# Altium footprint library IC packages.PcbLib: 68 footprints (part 2 of 5)
Each footprint in its own frame and in the unit in brackets; x right, y up, seen from the top. Pads: shape width x height; smd on the part's side, far side on the other; paste and mask are expansions set on the pad; w line width, h text height; cw(c..) or ccw(c..) is an arc to the next point about the centre after c.
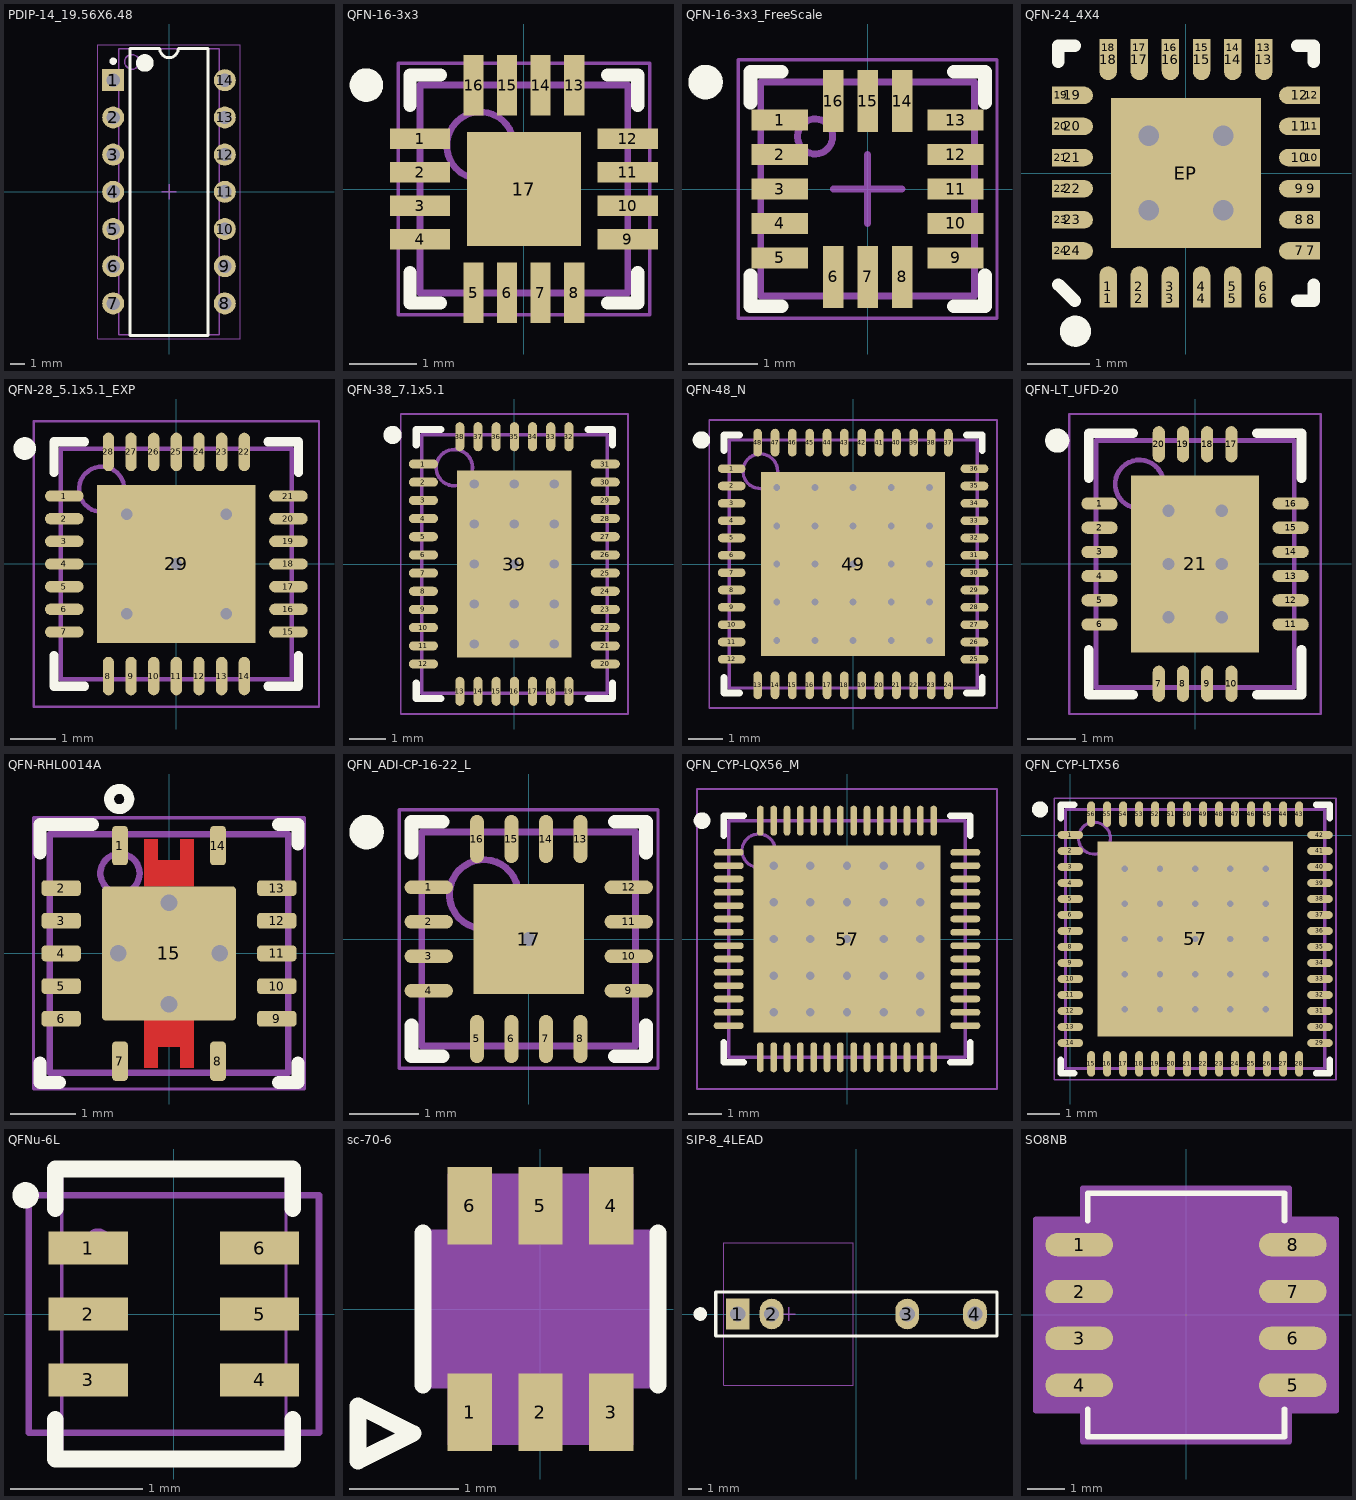
[diagram p1: the footprints below, top view; thin cyan lines are the x and y axes]

## PDIP-14_19.56X6.48 [mm] "14 Pin PDIP Package"
height 3.3
pads (14):
  rect 1.5x1.5 hole 0.9: 1(-3.81,7.62)
  round 1.5 hole 0.9: 2(-3.81,5.08) 3(-3.81,2.54) 4(-3.81,0) 5(-3.81,-2.54) 6(-3.81,-5.08) 7(-3.81,-7.62) 8(3.81,-7.62) 9(3.81,-5.08) 10(3.81,-2.54) 11(3.81,0) 12(3.81,2.54) 13(3.81,5.08) 14(3.81,7.62)
Top Overlay:
  circle w0.6: c-1.65,8.8 r0.3
  circle w0.25: c-3.81,8.92 r0.125
  lines w0.2: -2.65,-9.8 2.65,-9.8 2.65,9.8 0.635,9.8 cw(c0,9.8) -0.635,9.8 -2.65,9.8 -2.65,-9.8
Mechanical 1:
  circle w0.1: c-2.525,8.875 r0.5
  lines w0.1: -3.425,-9.775 3.425,-9.775 3.425,9.775 -3.425,9.775 -3.425,-9.775
  text ".Designator" at -2.057,-0.465 h1.52
Mechanical 15:
  lines w0.05: -4.85,-10.05 4.85,-10.05 4.85,10.05 -4.85,10.05 -4.85,-10.05
  lines w0.1: -0.5,0 0.5,0 ; 0,-0.5 0,0.5
3D body: height 0, standoff -1.6, extent 3.675,7.26 3.945,7.98
3D body: height 2.36, standoff 2.09, extent 3.425,7.12 3.945,8.12
3D body: height 2.09, standoff 0, extent 3.675,7.12 3.945,8.12
3D body: height 0, standoff -1.6, extent 3.675,4.72 3.945,5.44
3D body: height 2.36, standoff 2.09, extent 3.425,4.58 3.945,5.58
3D body: height 2.09, standoff 0, extent 3.675,4.58 3.945,5.58
3D body: height 0, standoff -1.6, extent 3.675,2.18 3.945,2.9
3D body: height 2.36, standoff 2.09, extent 3.425,2.04 3.945,3.04
3D body: height 2.09, standoff 0, extent 3.675,2.04 3.945,3.04
3D body: height 0, standoff -1.6, extent 3.675,-0.36 3.945,0.36
3D body: height 2.36, standoff 2.09, extent 3.425,-0.5 3.945,0.5
3D body: height 2.09, standoff 0, extent 3.675,-0.5 3.945,0.5
3D body: height 0, standoff -1.6, extent 3.675,-2.9 3.945,-2.18
3D body: height 2.36, standoff 2.09, extent 3.425,-3.04 3.945,-2.04
3D body: height 2.09, standoff 0, extent 3.675,-3.04 3.945,-2.04
3D body: height 0, standoff -1.6, extent 3.675,-5.44 3.945,-4.72
3D body: height 2.36, standoff 2.09, extent 3.425,-5.58 3.945,-4.58
3D body: height 2.09, standoff 0, extent 3.675,-5.58 3.945,-4.58
3D body: height 0, standoff -1.6, extent 3.675,-7.98 3.945,-7.26
3D body: height 2.36, standoff 2.09, extent 3.425,-8.12 3.945,-7.12
3D body: height 2.09, standoff 0, extent 3.675,-8.12 3.945,-7.12
3D body: height 0, standoff -1.6, extent -3.945,-7.98 -3.675,-7.26
3D body: height 2.36, standoff 2.09, extent -3.945,-8.12 -3.425,-7.12
3D body: height 2.09, standoff 0, extent -3.945,-8.12 -3.675,-7.12
3D body: height 0, standoff -1.6, extent -3.945,-5.44 -3.675,-4.72
3D body: height 2.36, standoff 2.09, extent -3.945,-5.58 -3.425,-4.58
3D body: height 2.09, standoff 0, extent -3.945,-5.58 -3.675,-4.58
3D body: height 0, standoff -1.6, extent -3.945,-2.9 -3.675,-2.18
3D body: height 2.36, standoff 2.09, extent -3.945,-3.04 -3.425,-2.04
3D body: height 2.09, standoff 0, extent -3.945,-3.04 -3.675,-2.04
3D body: height 0, standoff -1.6, extent -3.945,-0.36 -3.675,0.36
3D body: height 2.36, standoff 2.09, extent -3.945,-0.5 -3.425,0.5
3D body: height 2.09, standoff 0, extent -3.945,-0.5 -3.675,0.5
3D body: height 0, standoff -1.6, extent -3.945,2.18 -3.675,2.9
3D body: height 2.36, standoff 2.09, extent -3.945,2.04 -3.425,3.04
3D body: height 2.09, standoff 0, extent -3.945,2.04 -3.675,3.04
3D body: height 0, standoff -1.6, extent -3.945,4.72 -3.675,5.44
3D body: height 2.36, standoff 2.09, extent -3.945,4.58 -3.425,5.58
3D body: height 2.09, standoff 0, extent -3.945,4.58 -3.675,5.58
3D body: height 0, standoff -1.6, extent -3.945,7.26 -3.675,7.98
3D body: height 2.36, standoff 2.09, extent -3.945,7.12 -3.425,8.12
3D body: height 2.09, standoff 0, extent -3.945,7.12 -3.675,8.12
3D body: height 0.51, standoff 0, extent -3.425,-9.775 3.425,9.775

## QFN-16-3x3 [mm] "QFN, 16-Leads, Body 3x3mm, Pitch 0.5mm, Thermal Pad 1.7x1.7mm"
height 0.8
pads (17):
  rect 0.9x0.3 smd mask+0.08: 1(-1.55,0.75) 2(-1.55,0.25) 3(-1.55,-0.25) 4(-1.55,-0.75) 9(1.55,-0.75) 10(1.55,-0.25) 11(1.55,0.25) 12(1.55,0.75)
  rect 0.3x0.9 smd mask+0.08: 5(-0.75,-1.55) 6(-0.25,-1.55) 7(0.25,-1.55) 8(0.75,-1.55) 13(0.75,1.55) 14(0.25,1.55) 15(-0.25,1.55) 16(-0.75,1.55)
  rect 1.7x1.7 smd: 17(0,0)
Top Overlay:
  circle w0.25: c-2.35,1.55 r0.125
  lines w0.2: -1.7,-1.25 -1.7,-1.7 -1.25,-1.7 ; -1.7,1.25 -1.7,1.7 -1.25,1.7 ; 1.25,-1.7 1.7,-1.7 1.7,-1.25 ; 1.25,1.7 1.7,1.7 1.7,1.25
Mechanical 1:
  text ".Designator" at -1.9,2.025 h1.52
Mechanical 13:
  circle w0.1: c-0.65,0.65 r0.5
  lines w0.1: -1.55,-1.55 -1.55,1.55 1.55,1.55 1.55,-1.55 -1.55,-1.55
Mechanical 15:
  lines w0.05: -1.875,-1.875 -1.875,1.875 1.875,1.875 1.875,-1.875 -1.875,-1.875
  lines w0.1: -0.5,0 0.5,0 ; 0,-0.5 0,0.5
3D body: height 0.8, standoff 0, extent -1.55,-1.55 1.55,1.55

## QFN-16-3x3_FreeScale [mm] "QFN, 16-Leads, Body 3x3mm, Pitch 0.5mm, MMA8451 IC"
height 0.8
pads (16):
  rect 0.813x0.3 smd mask+0.08: 1(-1.275,1) 2(-1.275,0.5) 3(-1.275,0) 4(-1.275,-0.5) 5(-1.275,-1) 9(1.275,-1) 10(1.275,-0.5) 11(1.275,0) 12(1.275,0.5) 13(1.275,1)
  rect 0.3x0.9 smd mask+0.08: 6(-0.5,-1.275) 7(0,-1.275) 8(0.5,-1.275) 14(0.5,1.275) 15(0,1.275) 16(-0.5,1.275)
Top Overlay:
  circle w0.25: c-2.35,1.55 r0.125
  lines w0.2: -1.7,-1.25 -1.7,-1.7 -1.25,-1.7 ; -1.7,1.25 -1.7,1.7 -1.25,1.7 ; 1.25,-1.7 1.7,-1.7 1.7,-1.25 ; 1.25,1.7 1.7,1.7 1.7,1.25
Mechanical 1:
  circle w0.1: c-0.762,0.762 r0.254
  lines w0.1: -1.55,-1.55 1.55,-1.55 1.55,1.55 -1.55,1.55 -1.55,-1.55
  text ".Designator" at -1.3,2.1 h1
Mechanical 15:
  lines w0.05: -1.875,-1.875 1.875,-1.875 1.875,1.875 -1.875,1.875 -1.875,-1.875
  lines w0.1: -0.5,0 0.5,0 ; 0,-0.5 0,0.5
3D body: height 0.8, standoff 0, extent -1.55,-1.55 1.55,1.55

## QFN-24_4X4 [mm] "Quad Flat No Lead, Plastic; 24 Terminals; Body 4 x 4 mm; Pitch 0.5 mm"
height 0.8
pads (49):
  rect 0.28x0.28 smd: 1(-1.25,-2.015) 2(-0.75,-2.015) 3(-0.25,-2.015) 4(0.25,-2.015) 5(0.75,-2.015) 6(1.25,-2.015) 7(2.015,-1.25) 8(2.015,-0.75) 9(2.015,-0.25) 10(2.015,0.25) 11(2.015,0.75) 12(2.015,1.25) 13(1.25,2.015) 14(0.75,2.015) 15(0.25,2.015) 16(-0.25,2.015) 17(-0.75,2.015) 18(-1.25,2.015) 19(-2.015,1.25) 20(-2.015,0.75) 21(-2.015,0.25) 22(-2.015,-0.25) 23(-2.015,-0.75) 24(-2.015,-1.25)
  oval 0.28x0.66 smd: 1(-1.25,-1.825) 2(-0.75,-1.825) 3(-0.25,-1.825) 4(0.25,-1.825) 5(0.75,-1.825) 6(1.25,-1.825) 13(1.25,1.825) 14(0.75,1.825) 15(0.25,1.825) 16(-0.25,1.825) 17(-0.75,1.825) 18(-1.25,1.825)
  oval 0.66x0.28 smd: 7(1.825,-1.25) 8(1.825,-0.75) 9(1.825,-0.25) 10(1.825,0.25) 11(1.825,0.75) 12(1.825,1.25) 19(-1.825,1.25) 20(-1.825,0.75) 21(-1.825,0.25) 22(-1.825,-0.25) 23(-1.825,-0.75) 24(-1.825,-1.25)
  rect 2.413x2.413 smd paste+0 mask+0.051: EP(0,0)
via -0.6,-0.6 diameter 0.66 hole 0.33
via 0.6,-0.6 diameter 0.66 hole 0.33
via 0.6,0.6 diameter 0.66 hole 0.33
via -0.6,0.6 diameter 0.66 hole 0.33
Top Overlay:
  circle w0.25: c-1.778,-2.54 r0.125
  lines w0.2: -2.05,-1.79 -1.79,-2.05 ; -2.05,1.79 -2.05,2.05 -1.79,2.05 ; 1.79,-2.05 2.05,-2.05 2.05,-1.79 ; 1.79,2.05 2.05,2.05 2.05,1.79
3D body "QFN-24 4x4.step": height 1, standoff 0, extent -2,-2 2,2

## QFN-28_5.1x5.1_EXP [mm] "QFN, 28-Leads, Body 5.1x5.1mm, Pitch 0.6mm, Thermal Pad 3.6X3.6mm, IPC Medium Density"
height 0.8
pads (29):
  oval 0.85x0.25 smd: 1(-2.475,1.5) 2(-2.475,1) 3(-2.475,0.5) 4(-2.475,0) 5(-2.475,-0.5) 6(-2.475,-1) 7(-2.475,-1.5) 15(2.475,-1.5) 16(2.475,-1) 17(2.475,-0.5) 18(2.475,0) 19(2.475,0.5) 20(2.475,1) 21(2.475,1.5)
  oval 0.25x0.85 smd: 8(-1.5,-2.475) 9(-1,-2.475) 10(-0.5,-2.475) 11(0,-2.475) 12(0.5,-2.475) 13(1,-2.475) 14(1.5,-2.475) 22(1.5,2.475) 23(1,2.475) 24(0.5,2.475) 25(0,2.475) 26(-0.5,2.475) 27(-1,2.475) 28(-1.5,2.475)
  rect 3.5x3.5 smd: 29(0,0)
via 1.1,-1.1 diameter 0.5 hole 0.254
via -1.1,-1.1 diameter 0.5 hole 0.254
via 0,0 diameter 0.5 hole 0.254
via 1.1,1.1 diameter 0.5 hole 0.254
via -1.1,1.1 diameter 0.5 hole 0.254
Top Overlay:
  circle w0.25: c-3.35,2.55 r0.125
  lines w0.2: -2.7,-2.025 -2.7,-2.7 -2.025,-2.7 ; -2.7,2.025 -2.7,2.7 -2.025,2.7 ; 2.025,-2.7 2.7,-2.7 2.7,-2.025 ; 2.025,2.7 2.7,2.7 2.7,2.025
Mechanical 1:
  circle w0.1: c-1.65,1.65 r0.5
  lines w0.1: -2.55,-2.55 2.55,-2.55 2.55,2.55 -2.55,2.55 -2.55,-2.55
  text ".Designator" at -1,-0.794 h1.52
Mechanical 15:
  lines w0.05: -3.15,-3.15 3.15,-3.15 3.15,3.15 -3.15,3.15 -3.15,-3.15
  lines w0.1: -0.5,0 0.5,0 ; 0,-0.5 0,0.5
3D body: height 0.8, standoff 0, extent -2.55,-2.55 2.55,2.55

## QFN-38_7.1x5.1 [mm] "QFN, 38-Leads, Body 7.1x5.1mm, Pitch 0.5mm, Thermal Pad 3.15x5.15mm, IPC Medium Density"
height 0.8
pads (39):
  oval 0.8x0.25 smd: 1(-2.5,2.75) 2(-2.5,2.25) 3(-2.5,1.75) 4(-2.5,1.25) 5(-2.5,0.75) 6(-2.5,0.25) 7(-2.5,-0.25) 8(-2.5,-0.75) 9(-2.5,-1.25) 10(-2.5,-1.75) 11(-2.5,-2.25) 12(-2.5,-2.75) 20(2.5,-2.75) 21(2.5,-2.25) 22(2.5,-1.75) 23(2.5,-1.25) 24(2.5,-0.75) 25(2.5,-0.25) 26(2.5,0.25) 27(2.5,0.75) 28(2.5,1.25) 29(2.5,1.75) 30(2.5,2.25) 31(2.5,2.75)
  oval 0.25x0.8 smd: 13(-1.5,-3.5) 14(-1,-3.5) 15(-0.5,-3.5) 16(0,-3.5) 17(0.5,-3.5) 18(1,-3.5) 19(1.5,-3.5) 32(1.5,3.5) 33(1,3.5) 34(0.5,3.5) 35(0,3.5) 36(-0.5,3.5) 37(-1,3.5) 38(-1.5,3.5)
  rect 3.15x5.15 smd: 39(0,0)
via -1.1,2.2 diameter 0.5 hole 0.254
via 0,2.2 diameter 0.5 hole 0.254
via 1.1,2.2 diameter 0.5 hole 0.254
via -1.1,1.1 diameter 0.5 hole 0.254
via 0,1.1 diameter 0.5 hole 0.254
via 1.1,1.1 diameter 0.5 hole 0.254
via -1.1,0 diameter 0.5 hole 0.254
via 0,0 diameter 0.5 hole 0.254
via 1.1,0 diameter 0.5 hole 0.254
via -1.1,-1.1 diameter 0.5 hole 0.254
via 0,-1.1 diameter 0.5 hole 0.254
via 1.1,-1.1 diameter 0.5 hole 0.254
via -1.1,-2.2 diameter 0.5 hole 0.254
via 0,-2.2 diameter 0.5 hole 0.254
via 1.1,-2.2 diameter 0.5 hole 0.254
Top Overlay:
  circle w0.25: c-3.35,3.55 r0.125
  lines w0.2: -2.7,-3.275 -2.7,-3.7 -2.025,-3.7 ; -2.7,3.275 -2.7,3.7 -2.025,3.7 ; 2.025,-3.7 2.7,-3.7 2.7,-3.275 ; 2.025,3.7 2.7,3.7 2.7,3.275
Mechanical 1:
  circle w0.1: c-1.65,2.65 r0.5
  lines w0.1: -2.55,-3.55 -2.55,3.55 2.55,3.55 2.55,-3.55 -2.55,-3.55
Mechanical 15:
  lines w0.05: -3.125,-4.125 -3.125,4.125 3.125,4.125 3.125,-4.125 -3.125,-4.125
  lines w0.1: -0.5,0 0.5,0 ; 0,-0.5 0,0.5
3D body: height 0.8, standoff 0, extent -2.55,-3.55 2.55,3.55

## QFN-48_N [mm] "QFN, 48-Leads, Body 7x7mm, Pitch 0.5mm, Thermal Pad 5.3x5.3mm, IPC Medium Density"
height 0.9
pads (49):
  oval 0.8x0.25 smd: 1(-3.5,2.75) 2(-3.5,2.25) 3(-3.5,1.75) 4(-3.5,1.25) 5(-3.5,0.75) 6(-3.5,0.25) 7(-3.5,-0.25) 8(-3.5,-0.75) 9(-3.5,-1.25) 10(-3.5,-1.75) 11(-3.5,-2.25) 12(-3.5,-2.75) 25(3.5,-2.75) 26(3.5,-2.25) 27(3.5,-1.75) 28(3.5,-1.25) 29(3.5,-0.75) 30(3.5,-0.25) 31(3.5,0.25) 32(3.5,0.75) 33(3.5,1.25) 34(3.5,1.75) 35(3.5,2.25) 36(3.5,2.75)
  oval 0.25x0.8 smd: 13(-2.75,-3.5) 14(-2.25,-3.5) 15(-1.75,-3.5) 16(-1.25,-3.5) 17(-0.75,-3.5) 18(-0.25,-3.5) 19(0.25,-3.5) 20(0.75,-3.5) 21(1.25,-3.5) 22(1.75,-3.5) 23(2.25,-3.5) 24(2.75,-3.5) 37(2.75,3.5) 38(2.25,3.5) 39(1.75,3.5) 40(1.25,3.5) 41(0.75,3.5) 42(0.25,3.5) 43(-0.25,3.5) 44(-0.75,3.5) 45(-1.25,3.5) 46(-1.75,3.5) 47(-2.25,3.5) 48(-2.75,3.5)
  rect 5.3x5.3 smd: 49(0,0)
via 2.2,-2.2 diameter 0.5 hole 0.2
via 1.1,-2.2 diameter 0.5 hole 0.2
via 0,-2.2 diameter 0.5 hole 0.2
via -1.1,-2.2 diameter 0.5 hole 0.2
via -2.2,-2.2 diameter 0.5 hole 0.2
via 2.2,-1.1 diameter 0.5 hole 0.2
via 1.1,-1.1 diameter 0.5 hole 0.2
via 0,-1.1 diameter 0.5 hole 0.2
via -1.1,-1.1 diameter 0.5 hole 0.2
via -2.2,-1.1 diameter 0.5 hole 0.2
via 2.2,0 diameter 0.5 hole 0.2
via 1.1,0 diameter 0.5 hole 0.2
via 0,0 diameter 0.5 hole 0.2
via -1.1,0 diameter 0.5 hole 0.2
via -2.2,0 diameter 0.5 hole 0.2
via 2.2,1.1 diameter 0.5 hole 0.2
via 1.1,1.1 diameter 0.5 hole 0.2
via 0,1.1 diameter 0.5 hole 0.2
via -1.1,1.1 diameter 0.5 hole 0.2
via -2.2,1.1 diameter 0.5 hole 0.2
via 2.2,2.2 diameter 0.5 hole 0.2
via 1.1,2.2 diameter 0.5 hole 0.2
via 0,2.2 diameter 0.5 hole 0.2
via -1.1,2.2 diameter 0.5 hole 0.2
via -2.2,2.2 diameter 0.5 hole 0.2
Top Overlay:
  circle w0.25: c-4.375,3.575 r0.125
  lines w0.2: -3.725,-3.275 -3.725,-3.725 -3.275,-3.725 ; -3.725,3.275 -3.725,3.725 -3.275,3.725 ; 3.275,-3.725 3.725,-3.725 3.725,-3.275 ; 3.275,3.725 3.725,3.725 3.725,3.275
Mechanical 13:
  circle w0.1: c-2.675,2.675 r0.5
  lines w0.1: -3.575,-3.575 3.575,-3.575 3.575,3.575 -3.575,3.575 -3.575,-3.575
Mechanical 15:
  lines w0.05: -4.15,-4.15 4.15,-4.15 4.15,4.15 -4.15,4.15 -4.15,-4.15
  lines w0.1: -0.5,0 0.5,0 ; 0,-0.5 0,0.5
3D body: height 0.9, standoff 0, extent -3.575,-3.575 3.575,3.575

## QFN-LT_UFD-20 [mm] "QFN, 20-Leads, Body 5.1x4.1mm, Pitch 0.5mm, Thermal Pad 2.65x3.65mm, IPC Medium Density"
height 0.8
pads (21):
  oval 0.75x0.25 smd: 1(-1.975,1.25) 2(-1.975,0.75) 3(-1.975,0.25) 4(-1.975,-0.25) 5(-1.975,-0.75) 6(-1.975,-1.25) 11(1.975,-1.25) 12(1.975,-0.75) 13(1.975,-0.25) 14(1.975,0.25) 15(1.975,0.75) 16(1.975,1.25)
  oval 0.25x0.75 smd: 7(-0.75,-2.475) 8(-0.25,-2.475) 9(0.25,-2.475) 10(0.75,-2.475) 17(0.75,2.475) 18(0.25,2.475) 19(-0.25,2.475) 20(-0.75,2.475)
  rect 2.65x3.65 smd: 21(0,0)
via -0.55,1.1 diameter 0.508 hole 0.254
via 0.55,1.1 diameter 0.508 hole 0.254
via -0.55,0 diameter 0.508 hole 0.254
via 0.55,0 diameter 0.508 hole 0.254
via -0.55,-1.1 diameter 0.508 hole 0.254
via 0.55,-1.1 diameter 0.508 hole 0.254
Top Overlay:
  circle w0.25: c-2.85,2.55 r0.125
  lines w0.2: -2.2,-1.775 -2.2,-2.7 -1.275,-2.7 ; -2.2,1.775 -2.2,2.7 -1.275,2.7 ; 1.275,-2.7 2.2,-2.7 2.2,-1.775 ; 1.275,2.7 2.2,2.7 2.2,1.775
Mechanical 1:
  circle w0.1: c-1.15,1.65 r0.5
  lines w0.1: -2.05,-2.55 -2.05,2.55 2.05,2.55 2.05,-2.55 -2.05,-2.55
Mechanical 15:
  lines w0.05: -2.6,-3.1 -2.6,3.1 2.6,3.1 2.6,-3.1 -2.6,-3.1
  lines w0.1: -0.5,0 0.5,0 ; 0,-0.5 0,0.5
3D body: height 0.8, standoff 0, extent -2.05,-2.55 2.05,2.55

## QFN-RHL0014A [mm] "QFN, 14-Leads, Body 3.5x3.5mm, Pitch 0.5mm, Thermal Pad 2.05x2.05mm, TI Recommended"
height 1
pads (15):
  rrect42% 0.24x0.6 smd: 1(-0.75,1.65) 7(-0.75,-1.65) 8(0.75,-1.65) 14(0.75,1.65)
  rrect42% 0.6x0.24 smd: 2(-1.65,1) 3(-1.65,0.5) 4(-1.65,0) 5(-1.65,-0.5) 6(-1.65,-1) 9(1.65,-1) 10(1.65,-0.5) 11(1.65,0) 12(1.65,0.5) 13(1.65,1)
  rrect5% 2.05x2.05 smd paste-1.025: 15(0,0)
via 0.775,0 diameter 0.5 hole 0.254
via 0,0.775 diameter 0.5 hole 0.254
via -0.775,0 diameter 0.5 hole 0.254
via 0,-0.775 diameter 0.5 hole 0.254
Top Layer:
  region: -0.375,-1.025 0.375,-1.025 0.375,-1.75 0.175,-1.75 0.175,-1.425 -0.175,-1.425 -0.175,-1.75 -0.375,-1.75
  region: -0.375,1.025 0.375,1.025 0.375,1.75 0.175,1.75 0.175,1.425 -0.175,1.425 -0.175,1.75 -0.375,1.75
Top Overlay:
  circle w0.152: c-0.762,2.362 r0.155
  lines w0.2: -1.975,-1.675 -1.975,-1.975 -1.675,-1.975 ; -1.975,1.54 -1.975,1.975 -1.175,1.975 ; 1.675,-1.975 1.975,-1.975 1.975,-1.675 ; 1.675,1.975 1.975,1.975 1.975,1.675
Top Paste:
  rectangle: 0.1,-1.017 1.017,-0.1
  region: -0.1,-0.1 -1.017,-0.1 -1.017,-1.017 -0.1,-1.017
  rectangle: -0.35,0.1 -0.1,0.25
  region: -0.1,1.017 -1.017,1.017 -1.017,0.1 -0.1,0.1
  rectangle: 0.1,0.1 1.017,1.017
  region: 0.375,1.217 0.375,1.417 -0.375,1.417 -0.375,1.217
  region: -0.375,-1.217 -0.375,-1.417 0.375,-1.417 0.375,-1.217
Mechanical 1:
  text ".Designator" at -1.524,-0.762 h0.86
Mechanical 13:
  circle w0.1: c-0.75,1.225 r0.3
  lines w0.1: -1.825,-1.825 -1.825,1.825 1.825,1.825 1.825,-1.825 -1.825,-1.825
Mechanical 15:
  lines w0.05: -2.075,-2.075 2.075,-2.075 2.075,2.075 -2.075,2.075 -2.075,-2.075
  lines w0.1: -0.5,0 0.5,0 ; 0,-0.5 0,0.5
3D body: height 1, standoff 0, extent -1.825,-1.825 1.825,1.825
3D body: height 1.01, standoff 0.5, extent -1.049,0.926 -0.451,1.524

## QFN_ADI-CP-16-22_L [mm] "QFN, 16-Leads, Body 3x3mm, Pitch 0.5mm, Thermal Pad 1.6x1.6mm, IPC High Density"
height 0.8
pads (17):
  oval 0.7x0.2 smd: 1(-1.45,0.75) 2(-1.45,0.25) 3(-1.45,-0.25) 4(-1.45,-0.75) 9(1.45,-0.75) 10(1.45,-0.25) 11(1.45,0.25) 12(1.45,0.75)
  oval 0.2x0.7 smd: 5(-0.75,-1.45) 6(-0.25,-1.45) 7(0.25,-1.45) 8(0.75,-1.45) 13(0.75,1.45) 14(0.25,1.45) 15(-0.25,1.45) 16(-0.75,1.45)
  rect 1.6x1.6 smd: 17(0,0)
via 0,0 diameter 0.5 hole 0.2
Top Overlay:
  circle w0.25: c-2.35,1.55 r0.125
  lines w0.2: -1.7,-1.25 -1.7,-1.7 -1.25,-1.7 ; -1.7,1.25 -1.7,1.7 -1.25,1.7 ; 1.25,-1.7 1.7,-1.7 1.7,-1.25 ; 1.25,1.7 1.7,1.7 1.7,1.25
Mechanical 1:
  text ".Designator" at -1.475,2.075 h1.52
Mechanical 13:
  circle w0.1: c-0.65,0.65 r0.5
  lines w0.1: -1.55,-1.55 -1.55,1.55 1.55,1.55 1.55,-1.55 -1.55,-1.55
Mechanical 15:
  lines w0.05: -1.875,-1.875 -1.875,1.875 1.875,1.875 1.875,-1.875 -1.875,-1.875
  lines w0.1: -0.5,0 0.5,0 ; 0,-0.5 0,0.5
3D body: height 0.8, standoff 0, extent -1.55,-1.55 1.55,1.55

## QFN_CYP-LQX56_M [mm] "QFN, 56-Leads, Body 7x7mm, Pitch 0.4mm, Thermal Pad 5.6x5.6mm, IPC Low Density"
height 0.6
pads (57):
  oval 0.9x0.2 smd: 1(-3.55,2.6) 2(-3.55,2.2) 3(-3.55,1.8) 4(-3.55,1.4) 5(-3.55,1) 6(-3.55,0.6) 7(-3.55,0.2) 8(-3.55,-0.2) 9(-3.55,-0.6) 10(-3.55,-1) 11(-3.55,-1.4) 12(-3.55,-1.8) 13(-3.55,-2.2) 14(-3.55,-2.6) 29(3.55,-2.6) 30(3.55,-2.2) 31(3.55,-1.8) 32(3.55,-1.4) 33(3.55,-1) 34(3.55,-0.6) 35(3.55,-0.2) 36(3.55,0.2) 37(3.55,0.6) 38(3.55,1) 39(3.55,1.4) 40(3.55,1.8) 41(3.55,2.2) 42(3.55,2.6)
  oval 0.2x0.9 smd: 15(-2.6,-3.55) 16(-2.2,-3.55) 17(-1.8,-3.55) 18(-1.4,-3.55) 19(-1,-3.55) 20(-0.6,-3.55) 21(-0.2,-3.55) 22(0.2,-3.55) 23(0.6,-3.55) 24(1,-3.55) 25(1.4,-3.55) 26(1.8,-3.55) 27(2.2,-3.55) 28(2.6,-3.55) 43(2.6,3.55) 44(2.2,3.55) 45(1.8,3.55) 46(1.4,3.55) 47(1,3.55) 48(0.6,3.55) 49(0.2,3.55) 50(-0.2,3.55) 51(-0.6,3.55) 52(-1,3.55) 53(-1.4,3.55) 54(-1.8,3.55) 55(-2.2,3.55) 56(-2.6,3.55)
  rect 5.6x5.6 smd: 57(0,0)
via -2.2,2.2 diameter 0.508 hole 0.254
via -1.1,2.2 diameter 0.508 hole 0.254
via 0,2.2 diameter 0.508 hole 0.254
via 1.1,2.2 diameter 0.508 hole 0.254
via 2.2,2.2 diameter 0.508 hole 0.254
via -2.2,1.1 diameter 0.508 hole 0.254
via -1.1,1.1 diameter 0.508 hole 0.254
via 0,1.1 diameter 0.508 hole 0.254
via 1.1,1.1 diameter 0.508 hole 0.254
via 2.2,1.1 diameter 0.508 hole 0.254
via -2.2,0 diameter 0.508 hole 0.254
via -1.1,0 diameter 0.508 hole 0.254
via 0,0 diameter 0.508 hole 0.254
via 1.1,0 diameter 0.508 hole 0.254
via 2.2,0 diameter 0.508 hole 0.254
via -2.2,-1.1 diameter 0.508 hole 0.254
via -1.1,-1.1 diameter 0.508 hole 0.254
via 0,-1.1 diameter 0.508 hole 0.254
via 1.1,-1.1 diameter 0.508 hole 0.254
via 2.2,-1.1 diameter 0.508 hole 0.254
via -2.2,-2.2 diameter 0.508 hole 0.254
via -1.1,-2.2 diameter 0.508 hole 0.254
via 0,-2.2 diameter 0.508 hole 0.254
via 1.1,-2.2 diameter 0.508 hole 0.254
via 2.2,-2.2 diameter 0.508 hole 0.254
Top Overlay:
  circle w0.25: c-4.35,3.55 r0.125
  lines w0.2: -3.7,-3.1 -3.7,-3.7 -3.1,-3.7 ; -3.7,3.1 -3.7,3.7 -3.1,3.7 ; 3.1,-3.7 3.7,-3.7 3.7,-3.1 ; 3.1,3.7 3.7,3.7 3.7,3.1
Mechanical 1:
  circle w0.1: c-2.65,2.65 r0.5
  lines w0.1: -3.55,-3.55 -3.55,3.55 3.55,3.55 3.55,-3.55 -3.55,-3.55
  text ".Designator" at -1.016,-0.762 h1.52
Mechanical 15:
  lines w0.05: -4.5,-4.5 -4.5,4.5 4.5,4.5 4.5,-4.5 -4.5,-4.5
  lines w0.1: -0.5,0 0.5,0 ; 0,-0.5 0,0.5
3D body: height 0.6, standoff 0, extent -3.55,-3.55 3.55,3.55

## QFN_CYP-LTX56 [mm]
pads (57):
  oval 0.8x0.25 smd: 1(0,0) 2(0,-0.5) 3(0,-1) 4(0,-1.5) 5(0,-2) 6(0,-2.5) 7(0,-3) 8(0,-3.5) 9(0,-4) 10(0,-4.5) 11(0,-5) 12(0,-5.5) 13(0,-6) 14(0,-6.5) 29(7.8,-6.5) 30(7.8,-6) 31(7.8,-5.5) 32(7.8,-5) 33(7.8,-4.5) 34(7.8,-4) 35(7.8,-3.5) 36(7.8,-3) 37(7.8,-2.5) 38(7.8,-2) 39(7.8,-1.5) 40(7.8,-1) 41(7.8,-0.5) 42(7.8,0)
  oval 0.25x0.8 smd: 15(0.65,-7.15) 16(1.15,-7.15) 17(1.65,-7.15) 18(2.15,-7.15) 19(2.65,-7.15) 20(3.15,-7.15) 21(3.65,-7.15) 22(4.15,-7.15) 23(4.65,-7.15) 24(5.15,-7.15) 25(5.65,-7.15) 26(6.15,-7.15) 27(6.65,-7.15) 28(7.15,-7.15) 43(7.15,0.65) 44(6.65,0.65) 45(6.15,0.65) 46(5.65,0.65) 47(5.15,0.65) 48(4.65,0.65) 49(4.15,0.65) 50(3.65,0.65) 51(3.15,0.65) 52(2.65,0.65) 53(2.15,0.65) 54(1.65,0.65) 55(1.15,0.65) 56(0.65,0.65)
  rect 6.1x6.1 smd: 57(3.9,-3.25)
via 6.1,-5.45 diameter 0.5 hole 0.2
via 5,-5.45 diameter 0.5 hole 0.2
via 3.9,-5.45 diameter 0.5 hole 0.2
via 2.8,-5.45 diameter 0.5 hole 0.2
via 1.7,-5.45 diameter 0.5 hole 0.2
via 6.1,-4.35 diameter 0.5 hole 0.2
via 5,-4.35 diameter 0.5 hole 0.2
via 3.9,-4.35 diameter 0.5 hole 0.2
via 2.8,-4.35 diameter 0.5 hole 0.2
via 1.7,-4.35 diameter 0.5 hole 0.2
via 6.1,-3.25 diameter 0.5 hole 0.2
via 5,-3.25 diameter 0.5 hole 0.2
via 3.9,-3.25 diameter 0.5 hole 0.2
via 2.8,-3.25 diameter 0.5 hole 0.2
via 1.7,-3.25 diameter 0.5 hole 0.2
via 6.1,-2.15 diameter 0.5 hole 0.2
via 5,-2.15 diameter 0.5 hole 0.2
via 3.9,-2.15 diameter 0.5 hole 0.2
via 2.8,-2.15 diameter 0.5 hole 0.2
via 1.7,-2.15 diameter 0.5 hole 0.2
via 6.1,-1.05 diameter 0.5 hole 0.2
via 5,-1.05 diameter 0.5 hole 0.2
via 3.9,-1.05 diameter 0.5 hole 0.2
via 2.8,-1.05 diameter 0.5 hole 0.2
via 1.7,-1.05 diameter 0.5 hole 0.2
Top Overlay:
  circle w0.25: c-0.95,0.8 r0.125
  lines w0.2: -0.3,-7.025 -0.3,-7.45 0.125,-7.45 ; -0.3,0.525 -0.3,0.95 0.125,0.95 ; 7.675,-7.45 8.1,-7.45 8.1,-7.025 ; 7.675,0.95 8.1,0.95 8.1,0.525
Mechanical 13:
  circle w0.1: c0.75,-0.1 r0.5
  lines w0.1: -0.15,-7.3 7.95,-7.3 7.95,0.8 -0.15,0.8 -0.15,-7.3
Mechanical 15:
  lines w0.05: -0.5,-7.65 8.3,-7.65 8.3,1.15 -0.5,1.15 -0.5,-7.65
  lines w0.1: 3.4,-3.25 4.4,-3.25 ; 3.9,-3.75 3.9,-2.75
3D body: height 1, standoff 0, extent -0.15,-7.3 7.95,0.8

## QFNu-6L [mm] "QFN micro 6 pin."
height 0.52
pads (6):
  rect 0.6x0.25 smd paste-0.014 mask+0.05: 1(-0.65,0.5) 2(-0.65,0) 3(-0.65,-0.5) 4(0.65,-0.5) 5(0.65,0) 6(0.65,0.5)
Top Overlay:
  circle w0.1: c-1.125,0.9 r0.05
  lines w0.127: -0.9,-0.8 -0.9,-1.1 0.9,-1.1 0.9,-0.8 ; -0.9,0.8 -0.9,1.1 0.9,1.1 0.9,0.8
Mechanical 1:
  circle w0.1: c-0.575,0.55 r0.05
  lines w0.025: -0.85,-1.05 -0.85,1.05 0.85,1.05 0.85,-1.05 -0.85,-1.05
  text ".Designator" at -0.275,1.25 h1
Mechanical 15:
  lines w0.05: -1.1,-0.9 -1.1,0.9 1.1,0.9 1.1,-0.9 -1.1,-0.9
3D body: height 0.52, standoff 0, extent -0.85,-1.05 0.85,1.05

## sc-70-6 [mil]
height 43.31
pads (6):
  rect 16x28 smd: 1(-25.6,-37.4) 2(0,-37.4) 3(25.6,-37.4) 4(25.6,37.4) 5(0,37.4) 6(-25.6,37.4)
Top Overlay:
  lines w6: -42.5,-27.5 -42.5,27.5 ; 42.5,-27.5 42.5,27.5 ; -66,-55 -46,-45 -66,-35 -66,-55
Mechanical 1:
  circle w2.5: c-30,-15 r5
  lines w2.5: -42.5,-27.5 42.5,-27.5 42.5,27.5 -42.5,27.5 -42.5,-27.5
  text ".Designator" at -54.13,61.02 h39.37
Mechanical 11:
  pour cut-out: -42.5,27.5 -33.6,27.5 -33.6,49 33.6,49 33.6,27.5 42.5,27.5 42.5,-27.5 33.6,-27.5 33.6,-49 -33.6,-49 -33.6,-27.5 -42.5,-27.5
3D body "SC70-6.step": height 43.31, standoff 0, extent -39.37,-47.24 39.37,47.24

## SIP-8_4LEAD [mil] "4 PIN IPAQ"
height 129.92
pads (4):
  rect 70x90 hole 45: 1(-350,0)
  oval 70x90 hole 45: 2(-250,0) 3(150,0) 4(350,0)
Top Overlay:
  circle w20: c-460,0 r10
  lines w10: -415,-65 415,-65 415,65 -415,65 -415,-65
Mechanical 1:
  text ".Designator" at -250,-150 h60
Mechanical 15:
  lines w1.97: -390.94,-210.63 -390.94,210.63 -9.06,210.63 -9.06,-210.63 -390.94,-210.63
  lines w3.94: -219.69,0 -180.31,0 ; -200,-19.68 -200,19.68
3D body: height 40, standoff 0, extent -385,-7.5 -315,7.5
3D body: height 40, standoff 0, extent -285,-7.5 -215,7.5
3D body: height 40, standoff 0, extent 115,-7.5 185,7.5
3D body: height 40, standoff 0, extent 315,-7.5 385,7.5
3D body: height 400, standoff 40, extent -415,-65 415,65
3D body: height 0, standoff -70, extent 342.57,-7.48 357.51,7.49
3D body: height 0, standoff -70, extent 142.57,-7.48 157.51,7.49
3D body: height 0, standoff -70, extent -257.43,-7.48 -242.49,7.49
3D body: height 0, standoff -70, extent -357.44,-7.48 -342.5,7.49

## SO8NB [mil]
pads (8):
  oval 72x25 smd: 1(-114,75) 2(-114,25) 3(-114,-25) 4(-114,-75) 5(114,-75) 6(114,-25) 7(114,25) 8(114,75)
Top Overlay:
  lines w6: -105,-100.6 -105,-130 105,-130 105,-100.6 ; -105,100.6 -105,130 105,130 105,100.6
Mechanical 13:
  lines w0: -12,125 ccw(c0,125) 12,125
Mechanical 15:
  region: -110,-102 -160,-102 -160,102 -110,102 -110,135 110,135 110,102 160,102 160,-102 110,-102 110,-135 -110,-135
  lines w1.97: -133.86,-102.36 133.86,-102.36 133.86,102.36 -133.86,102.36 -133.86,-102.36
  lines w3.94: -19.69,0 19.68,0 ; 0,-19.68 0,19.68
  lines w6: -160,-102 -110,-102 -110,-135 110,-135 110,-102 160,-102 160,102 110,102 110,135 -110,135 -110,102 -160,102 -160,-102
3D body "SO8NB.stp": height 67.1, standoff 0, extent -136.22,-125 136.22,125